# Altium schematic symbol library APHCM2012SECK-F01.SchLib: 1 symbol
Pins are listed as number, name and electrical type; pins without a type are passive.

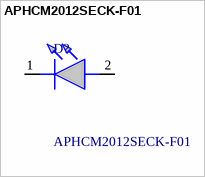
[diagram p0: symbol APHCM2012SECK-F01]

## APHCM2012SECK-F01
designator D?
Standard LEDs - SMD Orange 601nm Water Clear; Manufacturer_Name: Kingbright; Geometry.Height: 0.5mm; Mouser Part Number: 604-APHCM2012SECK; Mouser Price/Stock: https://www.mouser.co.uk/ProductDetail/Kingbright/APHCM2012SECK-F01?qs=qqKal61G0Kyqp6URQ9ws7Q%3D%3D; Manufacturer_Part_Number: APHCM2012SECK-F01; Datasheet Link: http://www.kingbrightusa.com/images/catalog/SPEC/APHCM2012SECK-F01.pdf
footprint LEDC2012X50N
pins: 1 K, 2 A